# Altium schematic symbol library mosfet_STM32.SchLib: 15 symbols
Pins are listed as number, name and electrical type; pins without a type are passive.

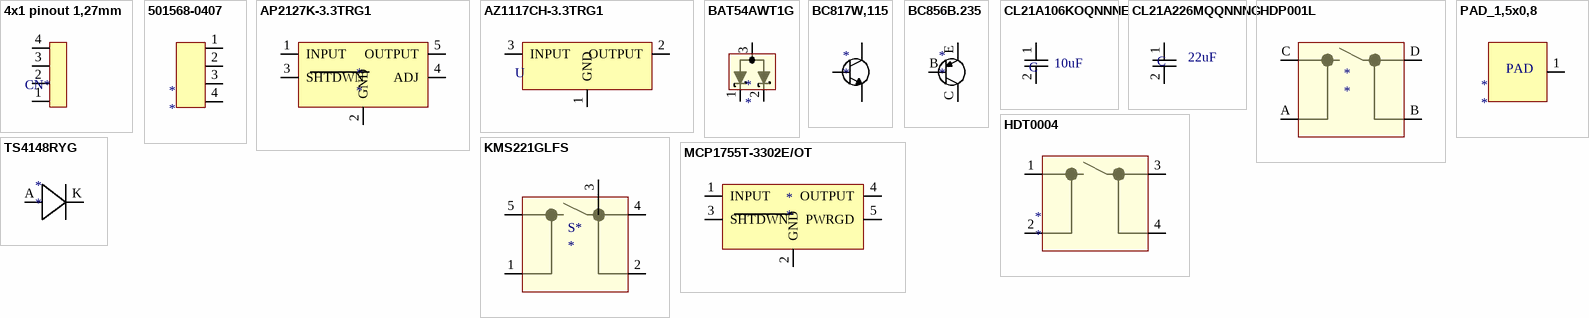
[diagram p0: symbols 4x1 pinout 1,27mm to TS4148RYG]

## 4x1 pinout 1,27mm
designator CN*  (value not drawn)
footprint 4x1 pinout 1,27mm
pins: 1, 2, 3, 4

## 501568-0407
designator *
Conn Shrouded Header HDR 4 POS 1mm Solder RA SMD Pico-Clasp™ T/R; Manufacturer: Molex; Manufacturer Part Number: 501568-0407; Current Rating: 1A; Voltage Rating (AC): 50V; Max Voltage Rating (DC): 5.05kV; Number of Positions: 4; Gender: Male; Connector Type: Male Pin; Glow Wire Compliant: Non-compliant; Supplier 1: TME; Stock 1: 1606; Pricing 1: 2=0.59, 20=0.53, 100=0.48, 500=0.42 (USD); Mount: Surface Mount; Contact Plating: Tin; Contact Material: Bronze,Brass; Color: Natural; Housing Color: Natural; Housing Material: Nylon; Min Operating Temperature: -40°C; Max Operating Temperature: 85°C; Number of Rows: 1; Package Quantity: 1700; Packaging: Tape and Reel; Voltage Rating: 50V; Termination: Solder; Fastening Type: Detent; Number of Contacts: 4; Max Voltage Rating (AC): 50V; Orientation: Right Angle; Number of Circuits: 4; Length: 6mm; Pitch: 1mm; Depth: 5.35mm; Radiation Hardening: No; REACH SVHC: Unknown; Lead Free: Lead Free; ComponentLink1URL: http://www.molex.com/webdocs/datasheets/pdf/en-us/5015680407_PCB_HEADERS.pdf?src-supplier=Mouser; ComponentLink1Description: http://www.molex.com/webdocs/datasheets/pdf/en-us/5015680407_PCB_HEADERS.pdf?src-supplier=Mouser; ComponentLink2URL: http://www.onlinecomponents.com/productFiles/mf-MOL/940865015680407_pcb_headers.pdf?src-supplier=Onlinecomponents.com; ComponentLink2Description: http://www.onlinecomponents.com/productFiles/mf-MOL/940865015680407_pcb_headers.pdf?src-supplier=Onlinecomponents.com; ComponentLink3URL: http://www.molex.com/webdocs/datasheets/pdf/en-us/5015680407_PCB_HEADERS.pdf?src-supplier=Avnet; ComponentLink3Description: http://www.molex.com/webdocs/datasheets/pdf/en-us/5015680407_PCB_HEADERS.pdf?src-supplier=Avnet; ComponentLink4URL: https://www.molex.com/pdm_docs/ps/PS-501568-001.pdf?src-supplier=Digi-Key; ComponentLink4Description: https://www.molex.com/pdm_docs/ps/PS-501568-001.pdf?src-supplier=Digi-Key; ComponentLink5URL: http://uk.rs-online.com/webdocs/13c5/0900766b813c54a0.pdf?src-supplier=RSComponents; ComponentLink5Description: http://uk.rs-online.com/webdocs/13c5/0900766b813c54a0.pdf?src-supplier=RSComponents; ComponentLink6URL: http://www.molex.com/webdocs/datasheets/pdf/en-us/5015680407_PCB_HEADERS.pdf?src-supplier=Avnet+Europe; ComponentLink6Description: http://www.molex.com/webdocs/datasheets/pdf/en-us/5015680407_PCB_HEADERS.pdf?src-supplier=Avnet+Europe; Supplier Part Number 1: MX-501568-0407
footprint Molex 4x1 (raster 1mm)
pins: 1, 2, 3, 4

## AP2127K-3.3TRG1
designator *
IC REG LINEAR 3.3V 300MA SOT23-5; Manufacturer: Diodes; Manufacturer Part Number: AP2127K-3.3TRG1; Dropout Voltage: 170mV; Number of Outputs: 1; Min Input Voltage: 2.5V; Max Input Voltage: 6V; Polarity: Positive; Quiescent Current: 60uA; Reference Voltage: 816mV; Accuracy: 2%; Max Output Voltage: 5.5V; Power Supply Rejection Ratio (PSRR): 68dB; Max Output Current: 400mA; Output Type: Fixed; Supplier 1: TME; Stock 1: 1225; Pricing 1: 5=0.1151, 25=0.07736, 100=0.06839, 500=0.06142, 3000=0.05733 (USD); Mount: Surface Mount; Case/Package: SOT-23-5; Number of Pins: 5; Weight: 0.001058oz; Min Operating Temperature: -40°C; Max Operating Temperature: 85°C; Package Quantity: 3000; Packaging: Tape and Reel; Output Voltage: 3.3V; Output Current: 300mA; Number of Regulators: 1; Length: 3.1mm; Height: 1.3mm; Width: 1.7mm; Lead Free: Lead Free; ComponentLink1URL: https://www.diodes.com/assets/Datasheets/AP2127.pdf?src-supplier=Digi-Key; ComponentLink1Description: https://www.diodes.com/assets/Datasheets/AP2127.pdf?src-supplier=Digi-Key; ComponentLink2URL: http://www.diodes.com/datasheets/AP2127.pdf?src-supplier=Avnet; ComponentLink2Description: http://www.diodes.com/datasheets/AP2127.pdf?src-supplier=Avnet; Supplier Part Number 1: AP2127K-3.3TRG1
footprint SOT 23-5, AP2127K-3.3TRG1 (SOT23, 5-Leads, Body 2,96x2,83mm, Pitch 0,95mm, IPC High Density)
pins: 1 INPUT, 2 GND, 3 SHTDWN, 4 ADJ, 5 OUTPUT

## AZ1117CH-3.3TRG1
designator U, comment Linear stabilisator LDO  (value not drawn)
IC REG LINEAR 3.3V 800MA SOT223; Manufacturer: Diodes; Manufacturer Part Number: AZ1117CH-3.3TRG1; Number of Outputs: 1; Max Input Voltage: 15V; Dropout Voltage: 1.2V; Min Current Limit: 1A; Max Output Current: 1.35A; Quiescent Current: 6mA; Polarity: Positive; Reference Voltage: 1.262V; Accuracy: 1%; Power Supply Rejection Ratio (PSRR): 70dB; Output Type: Fixed; Supplier 1: TME; Stock 1: 3214; Pricing 1: 5=0.1099, 25=0.0693, 100=0.0612, 500=0.055, 4000=0.0513 (USD); Mount: Surface Mount; Case/Package: SOT-223; Number of Pins: 4; Min Operating Temperature: -20°C; Max Operating Temperature: 125°C; Packaging: Tape and Reel; Output Voltage: 3.3V; Package Quantity: 4000; Output Current: 800mA; Number of Regulators: 1; Length: 6.7mm; Height: 1.7mm; Width: 3.7mm; Lead Free: Lead Free; ComponentLink1URL: https://www.diodes.com/assets/Datasheets/AZ1117C.pdf?src-supplier=Digi-Key; ComponentLink1Description: https://www.diodes.com/assets/Datasheets/AZ1117C.pdf?src-supplier=Digi-Key; Supplier Part Number 1: AZ1117CH-3.3TRG1
footprint AZ1117CH-3.3TRG1 (3.3V stabilisator, SOT223)
pins: 1 GND, 2 OUTPUT, 3 INPUT

## BAT54AWT1G
designator *
DIODE ARRAY SCHOTTKY 30V SOT323; Manufacturer: ON Semiconductor; Manufacturer Part Number: BAT54AWT1G; Forward Current: 200mA; Element Configuration: Common Anode; Forward Voltage: 800mV; Reverse Recovery Time: 5ns; Max Forward Surge Current (Ifsm): 600mA; Max Reverse Leakage Current: 2uA; Power Dissipation: 200mW; Supplier 1: TME; Stock 1: 2760; Pricing 1: 20=0.0245, 100=0.022, 500=0.0195, 3000=0.0175, 12000=0.0163 (EUR); Case/Package: SOT-323-3; Number of Pins: 3; Contact Plating: Tin,Matte; Min Operating Temperature: -55°C; Max Operating Temperature: 125°C; Max Repetitive Reverse Voltage (Vrrm): 30V; Package Quantity: 3000; Packaging: Tape and Reel; Average Rectified Current: 200mA; Peak Non-Repetitive Surge Current: 600mA; Max Reverse Voltage (DC): 30V; Max Surge Current: 600mA; Recovery Time: 5ns; Peak Reverse Current: 2uA; Current Rating: 200mA; Voltage Rating (DC): 30V; Length: 2.2mm; Height: 0.9mm; Width: 1.35mm; Radiation Hardening: No; Lead Free: Lead Free; Halogen Free: Halogen Free; REACH SVHC: No SVHC; ComponentLink1URL: http://www.farnell.com/datasheets/1750572.pdf?src-supplier=Element14; ComponentLink1Description: http://www.farnell.com/datasheets/1750572.pdf?src-supplier=Element14; ComponentLink2URL: http://www.farnell.com/datasheets/1916588.pdf?src-supplier=Element14; ComponentLink2Description: http://www.farnell.com/datasheets/1916588.pdf?src-supplier=Element14; ComponentLink3URL: http://www.onsemi.com/pub/Collateral/BAT54AWT1-D.PDF?src-supplier=Avnet; ComponentLink3Description: http://www.onsemi.com/pub/Collateral/BAT54AWT1-D.PDF?src-supplier=Avnet; ComponentLink4URL: http://www.onsemi.com/pub/Collateral/BAT54AWT1-D.PDF?src-supplier=Digi-Key; ComponentLink4Description: http://www.onsemi.com/pub/Collateral/BAT54AWT1-D.PDF?src-supplier=Digi-Key; ComponentLink5URL: https://www.verical.com/server-webapp/html/getDatasheet?partID=246779&src-supplier=Verical; ComponentLink5Description: https://www.verical.com/server-webapp/html/getDatasheet?partID=246779&src-supplier=Verical; ComponentLink6URL: http://uk.rs-online.com/webdocs/1276/0900766b8127699c.pdf?src-supplier=RSComponents; ComponentLink6Description: http://uk.rs-online.com/webdocs/1276/0900766b8127699c.pdf?src-supplier=RSComponents; ComponentLink7URL: http://www.onsemi.com/pub/Collateral/BAT54AWT1-D.PDF?src-supplier=Future+Electronics; ComponentLink7Description: http://www.onsemi.com/pub/Collateral/BAT54AWT1-D.PDF?src-supplier=Future+Electronics; ComponentLink8URL: http://www.onsemi.com/pub/Collateral/BAT54AWT1-D.PDF?src-supplier=Avnet+Europe; ComponentLink8Description: http://www.onsemi.com/pub/Collateral/BAT54AWT1-D.PDF?src-supplier=Avnet+Europe; ComponentLink9URL: http://www.onsemi.com/pub/Collateral/BAT54AWT1-D.PDF?src-supplier=Avnet+Asia; ComponentLink9Description: http://www.onsemi.com/pub/Collateral/BAT54AWT1-D.PDF?src-supplier=Avnet+Asia; Supplier Part Number 1: BAT54AWT1G
footprint BC817W.115 (SOT323, 3-Leads, Body 2,00x2,10mm, Pitch 1,30mm, IPC High Density)
pins: 1 CATHODE, 2 CATHODE, 3 ANODE

## BC817W,115
designator *
TRANS NPN 45V 0.5A SOT323; Manufacturer: Nexperia USA; Manufacturer Part Number: BC817W,115; Supplier 1: Farnell; Stock 1: 0; Supplier Part Number 1: 2439014
footprint BC817W.115 (SOT323, 3-Leads, Body 2,00x2,10mm, Pitch 1,30mm, IPC High Density)
pins: 1 B, 2 E, 3 C

## BC856B.235
designator *
Manufacturer: NXP Semiconductors; Manufacturer Part Number: BC856B.235; Supplier 1: TME; Stock 1: 26700; Pricing 1: 25=0.02079, 100=0.01453, 500=0.01296, 5000=0.0108, 10000=0.01003 (USD); Case/Package: SOT-23; Packaging: Tape and Reel; Lead Free: Lead Free; Supplier Part Number 1: BC856B.235
pins: B, C, E

## CL21A106KOQNNNE
designator C  Capacitance: 10uF  (hidden comment: *)
Cap Ceramic 10uF 16V X5R 10% SMD 0805 85C T/R; Manufacturer: Samsung; Manufacturer Part Number: CL21A106KOQNNNE; Dielectric: X7R; Supplier 1: TME; Stock 1: 80000; Pricing 1: 100=0.02993, 300=0.02117, 1000=0.01541, 2000=0.01308, 10000=0.01253 (USD); Mount: Surface Mount; Case/Package: 0805; Case Code (Metric): 2012; Case Code (Imperial): 0805; Min Operating Temperature: -55°C; Max Operating Temperature: 85°C; Package Quantity: 1; Packaging: Tape and Reel; Tolerance: 10%; Voltage Rating: 16V; Voltage Rating (DC): 16V; Voltage: 16V; Length: 2mm; Height: 1.25mm; Width: 0.049inch; Thickness: 0.055inch; Depth: 1.25mm; Radiation Hardening: No; Lead Free: Lead Free; ComponentLink1URL: http://www.samsungsem.com/kr/support/product-search/mlcc/CL21A106KOQNNNE.jsp?src-supplier=Digi-Key; ComponentLink1Description: http://www.samsungsem.com/kr/support/product-search/mlcc/CL21A106KOQNNNE.jsp?src-supplier=Digi-Key; ComponentLink2URL: http://www1.futureelectronics.com/doc/SAMSUNG%20PASSIVE/CL05B104KQ5NNNC.pdf?src-supplier=Future+Electronics; ComponentLink2Description: http://www1.futureelectronics.com/doc/SAMSUNG%20PASSIVE/CL05B104KQ5NNNC.pdf?src-supplier=Future+Electronics; ComponentLink3URL: https://www.verical.com/server-webapp/html/getDatasheet?partID=358435&src-supplier=Verical; ComponentLink3Description: https://www.verical.com/server-webapp/html/getDatasheet?partID=358435&src-supplier=Verical; Supplier Part Number 1: CL21A106KOQNNNE
footprint 0805
pins: 1 C, 2 C

## CL21A226MQQNNNG
designator C  Capacitance: 22uF  (hidden comment: *)
Cap Ceramic 22uF 6.3V X5R 20% SMD 0805 85C Embossed T/R; Manufacturer: Samsung; Manufacturer Part Number: CL21A226MQQNNNG; Supplier 1: TME; Stock 1: 38100; Pricing 1: 100=0.03725, 300=0.0296, 1000=0.02317, 3000=0.01829, 12000=0.0174 (USD); Mount: Surface Mount; Case/Package: 0805; Case Code (Metric): 2012; Case Code (Imperial): 0805; Material: Ceramic; Min Operating Temperature: -55°C; Max Operating Temperature: 85°C; Tolerance: 20%; Dielectric: X5R; Packaging: Tape and Reel; Package Quantity: 3000; Voltage Rating: 6.3V; Voltage: 6.3V; Length: 2mm; Height: 1.25mm; Width: 0.049inch; Thickness: 0.055inch; Depth: 1.25mm; Radiation Hardening: No; ComponentLink1URL: http://www.samsungsem.com/kr/support/product-search/mlcc/CL21A226MQQNNNG.jsp?src-supplier=Digi-Key; ComponentLink1Description: http://www.samsungsem.com/kr/support/product-search/mlcc/CL21A226MQQNNNG.jsp?src-supplier=Digi-Key; ComponentLink2URL: https://produktinfo.conrad.com/datenblaetter/450000-474999/454647-da-01-en-VS_KONDENSATOR_0805.pdf?src-supplier=Conrad; ComponentLink2Description: https://produktinfo.conrad.com/datenblaetter/450000-474999/454647-da-01-en-VS_KONDENSATOR_0805.pdf?src-supplier=Conrad; Supplier Part Number 1: CL21A226MQQNNNG
footprint 0805
pins: 1 C, 2 C

## HDP001L
designator *
footprint HDP001L
pins: A, B, C, D

## HDT0004
designator *
SWITCH DETECT MICRO SPST SMD 5V; Manufacturer: ITT C&K; Manufacturer Part Number: HDT0004; Mechanical Life: 100000Cycles; Operating Force: 0.34N; Contact Resistance: 500mR; Current Rating: 1mA; Pretravel: 0.012inch; Overtravel: 0.039inch; Operating Position: 0.138inch; Switch Function: Off-Mom; Actuator Type: Lever; Actuator Length: 1.5mm; Supplier 1: TME; Stock 1: 2654; Pricing 1: 1=0.9131, 5=0.8114, 20=0.7611, 100=0.7108, 500=0.6851 (USD); Mount: Surface Mount; Case/Package: SMD/SMT; Contact Material: Bronze,Silver; Number of Terminals: 4; Min Operating Temperature: -40°C; Max Operating Temperature: 85°C; Packaging: Tape and Reel; Package Quantity: 1; Voltage Rating (DC): 5V; Throw Configuration: SPST; Max Voltage Rating (DC): 5V; Termination: SMD/SMT; Electrical Life: 100000Cycles; Contact Current Rating: 1mA; Orientation: Straight; Height: 2.3mm; Width: 3.8mm; REACH SVHC: No SVHC; Lead Free: Lead Free; ComponentLink1URL: http://www.farnell.com/datasheets/1707717.pdf?src-supplier=Element14; ComponentLink1Description: http://www.farnell.com/datasheets/1707717.pdf?src-supplier=Element14; ComponentLink2URL: http://www.ck-components.com/index.php?module=media&action=Display&cmpref=15147&lang=en&width=&height=&format=&alt=&src-supplier=Digi-Key; ComponentLink2Description: http://www.ck-components.com/index.php?module=media&action=Display&cmpref=15147&lang=en&width=&height=&format=&alt=&src-supplier=Digi-Key; ComponentLink3URL: https://www.ckswitches.com/media/1307/hdt.pdf?src-supplier=Digi-Key; ComponentLink3Description: https://www.ckswitches.com/media/1307/hdt.pdf?src-supplier=Digi-Key; Supplier Part Number 1: HDT0004
footprint HDT0004
pins: 1, 2, 3, 4

## KMS221GLFS
designator S*
SWITCH TACTILE SPST-NO 0.05A 50V; Manufacturer: ITT C&K; Manufacturer Part Number: KMS221GPLFS; Mechanical Life: 100000Cycles; Operating Force: 2N; Throw Configuration: SPST; Max Current Rating: 50mA; Max Voltage Rating (DC): 32V; Illumination Type: Non-Illuminated; Switch Travel: 0.25mm; Switch Function: Off-Mom; Power Rating: 1W; Actuator Length: 0.75mm; Ratings: IP40; Supplier 1: TME; Stock 1: 0; Mount: Surface Mount; Contact Material: Silver; Contact Plating: Silver; Min Operating Temperature: -40°C; Max Operating Temperature: 85°C; Termination: Gull Wing; Packaging: Tape and Reel; Voltage Rating (DC): 32V; Package Quantity: 1; Current Rating: 50mA; Orientation: Right Angle; Contact Current Rating: 50mA; Length: 3.55mm; Depth: 4.6mm; Width: 1.42mm; Radiation Hardening: No; Lead Free: Lead Free; ComponentLink1URL: http://www.ck-components.com/index.php?module=media&action=Display&cmpref=14416&lang=en&width=&height=&format=&alt=&src-supplier=Digi-Key; ComponentLink1Description: http://www.ck-components.com/index.php?module=media&action=Display&cmpref=14416&lang=en&width=&height=&format=&alt=&src-supplier=Digi-Key; ComponentLink2URL: http://www.ck-components.com/14416/kms_31aug10.pdf/?src-supplier=Mouser; ComponentLink2Description: http://www.ck-components.com/14416/kms_31aug10.pdf/?src-supplier=Mouser; ComponentLink3URL: https://www.ckswitches.com/media/1482/kms.pdf?src-supplier=Digi-Key; ComponentLink3Description: https://www.ckswitches.com/media/1482/kms.pdf?src-supplier=Digi-Key; Supplier Part Number 1: KMS221GPLFS
footprint KMS221GLFS
pins: 1, 2, 3, 4, 5

## MCP1755T-3302E/OT
designator *
MICROCHIP   MCP1755T-3302E/OT   IC, LDO VOLT REG, 3.3V, 0.3A, SOT23-5; Max Input Voltage: 16V; Output Current: 300mA; Dropout Voltage: 300mV; Number of Regulators: 1; Quiescent Current: 100uA; Power Supply Rejection Ratio (PSRR): 80dB; Output Type: Fixed; Min Input Voltage: 3.6V; Tolerance: 2%; Polarity: Positive; Nominal Supply Current: 68uA; Supplier 1: TME; Manufacturer: Microchip; Manufacturer Part Number: MCP1755T-3302E/OT; Stock 1: 13; Pricing 1: 3=0.75, 10=0.73, 25=0.62, 100=0.57 (USD); Mount: Surface Mount; Case/Package: SOT-23-5; Number of Pins: 5; Min Operating Temperature: -40°C; Max Operating Temperature: 125°C; Packaging: Tape and Reel; Number of Outputs: 1; Output Voltage: 3.3V; Package Quantity: 3000; Nominal Output Voltage: 3.3V; Max Output Current: 300mA; Accuracy: 2%; Output Voltage Accuracy: 2%; Radiation Hardening: No; REACH SVHC: No SVHC; Lead Free: Lead Free; ComponentLink1URL: http://www.microchip.com/mymicrochip/filehandler.aspx?ddocname=en533805&src-supplier=Digi-Key; ComponentLink1Description: http://www.microchip.com/mymicrochip/filehandler.aspx?ddocname=en533805&src-supplier=Digi-Key; ComponentLink2URL: http://www.microchip.com/mymicrochip/filehandler.aspx?ddocname=en560605&src-supplier=Digi-Key; ComponentLink2Description: http://www.microchip.com/mymicrochip/filehandler.aspx?ddocname=en560605&src-supplier=Digi-Key; ComponentLink3URL: http://www.farnell.com/datasheets/1697992.pdf?src-supplier=Element14; ComponentLink3Description: http://www.farnell.com/datasheets/1697992.pdf?src-supplier=Element14; ComponentLink4URL: https://www.verical.com/server-webapp/html/getDatasheet?partID=775879&src-supplier=Verical; ComponentLink4Description: https://www.verical.com/server-webapp/html/getDatasheet?partID=775879&src-supplier=Verical; Supplier Part Number 1: MCP1755T-3302E/OT
footprint SOT 23-5, AP2127K-3.3TRG1 (SOT23, 5-Leads, Body 2,96x2,83mm, Pitch 0,95mm, IPC High Density)
pins: 1 INPUT, 2 GND, 3 SHTDWN, 4 OUTPUT, 5 PWRGD

## PAD_1,5x0,8
designator *
footprint PAD_1,5x0,8
pins: 1
text: PAD

## TS4148RYG
designator *
Diode Small Signal Switching 75V 0.15A 2-Pin Case 0805 T/R; Manufacturer: Taiwan Semiconductor; Manufacturer Part Number: TS4148RYG; Forward Voltage: 1V; Peak Non-Repetitive Surge Current: 2A; Element Configuration: Single; Reverse Recovery Time: 4ns; Supplier 1: TME; Stock 1: 145631; Pricing 1: 25=0.0275, 100=0.018, 500=0.0144, 1000=0.0129, 5000=0.012 (USD); Mount: Surface Mount; Case/Package: SMD/SMT; Number of Pins: 2; Min Operating Temperature: -65°C; Max Operating Temperature: 175°C; Packaging: Tape and Reel; Max Repetitive Reverse Voltage (Vrrm): 75V; Max Forward Surge Current (Ifsm): 2A; Radiation Hardening: No; ComponentLink1URL: http://www.rapidonline.com/pdf/47-1004.pdf?src-supplier=Rapid+Electronics; ComponentLink1Description: http://www.rapidonline.com/pdf/47-1004.pdf?src-supplier=Rapid+Electronics; ComponentLink2URL: https://www.verical.com/server-webapp/html/getDatasheet?partID=461722&src-supplier=Verical; ComponentLink2Description: https://www.verical.com/server-webapp/html/getDatasheet?partID=461722&src-supplier=Verical; Supplier Part Number 1: TS4148-RYG
footprint 0805 diode
pins: A Anode, K Cathode